# Altium schematic symbol library COLOR_TEST.SchLib: 1 symbol
Pins are listed as number, name and electrical type; pins without a type are passive.

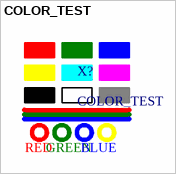
[diagram p0: symbol COLOR_TEST]

## COLOR_TEST
designator X?
Test colors on all object types
text: RED; GREEN; BLUE